# EAGLE library part TYPE-C-31-M-12 (library TYPE-C-31-M-12)
Check availability <https://pricing.snapeda.com/parts/TYPE-C-31-M-12/HRO%20Electronics%20Co.%2C%20Ltd./view-part?ref=eda>
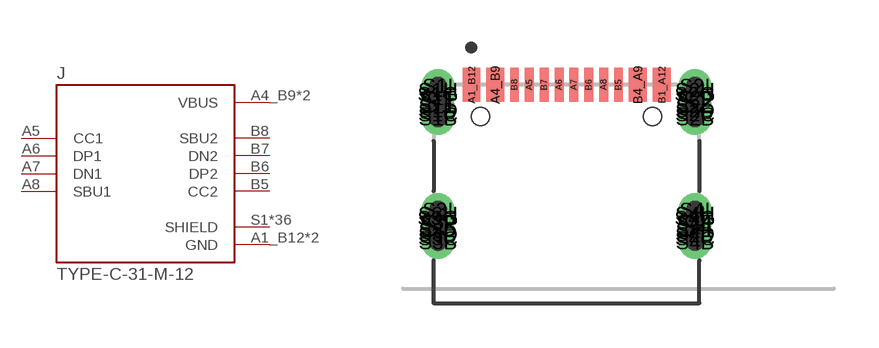
[diagram p0: symbol with the pads of HRO_TYPE-C-31-M-12; footprint HRO_TYPE-C-31-M-12]

Designator prefix J

## TYPE-C-31-M-12 (Availability: Not in stock; Check_prices: https://www.snapeda.com/parts/TYPE-C-31-M-12/HRO+Electronics+Co.%252C+Ltd./view-part/?ref=eda; Description: USB Connectors 24 Receptacle 1 8.94*7.3mm RoHS; MF: HRO Electronics Co., Ltd.; MP: TYPE-C-31-M-12; Package: Package; Price: None; SnapEDA_Link: https://www.snapeda.com/parts/TYPE-C-31-M-12/HRO+Electronics+Co.%252C+Ltd./view-part/?ref=snap)  [HRO_TYPE-C-31-M-12]
A1_B12  GND  pwr
A4_B9  VBUS  pwr
A5  CC1
A6  DP1
A7  DN1
A8  SBU1
B1_A12  GND  pwr
B4_A9  VBUS  pwr
B5  CC2
B6  DP2
B7  DN2
B8  SBU2
S1  SHIELD  pas
S1B  SHIELD  pas
S1C  SHIELD  pas
S1D  SHIELD  pas
S1E  SHIELD  pas
S1F  SHIELD  pas
S1G  SHIELD  pas
S1H  SHIELD  pas
S1I  SHIELD  pas
S2  SHIELD  pas
S2B  SHIELD  pas
S2C  SHIELD  pas
S2D  SHIELD  pas
S2E  SHIELD  pas
S2F  SHIELD  pas
S2G  SHIELD  pas
S2H  SHIELD  pas
S2I  SHIELD  pas
S3  SHIELD  pas
S3B  SHIELD  pas
S3C  SHIELD  pas
S3D  SHIELD  pas
S3E  SHIELD  pas
S3F  SHIELD  pas
S3G  SHIELD  pas
S3H  SHIELD  pas
S3I  SHIELD  pas
S4  SHIELD  pas
S4B  SHIELD  pas
S4C  SHIELD  pas
S4D  SHIELD  pas
S4E  SHIELD  pas
S4F  SHIELD  pas
S4G  SHIELD  pas
S4H  SHIELD  pas
S4I  SHIELD  pas

## Footprint HRO_TYPE-C-31-M-12 (pad centres in mm)
smd 0.6 x 1.14: A1_B12 -3.2,4.75; A4_B9 -2.4,4.75; B1_A12 3.2,4.75; B4_A9 2.4,4.75
smd 0.3 x 1.14: A5 -1.25,4.75; A6 -0.25,4.75; A7 0.25,4.75; A8 1.25,4.75; B5 1.75,4.75; B6 0.75,4.75; B7 -0.75,4.75; B8 -1.75,4.75
drill 0.6 pad 1 long: S1 -4.325,4.17; S2 4.325,4.17; S3 -4.325,0; S4 4.325,0
drill 0.6 pad 0.9: S1B -4.325,3.62; S1C -4.325,3.757; S1D -4.325,3.895; S1E -4.325,4.032; S1F -4.325,4.308; S1G -4.325,4.445; S1H -4.325,4.582; S1I -4.325,4.72; S2B 4.325,3.62; S2C 4.325,3.757; S2D 4.325,3.895; S2E 4.325,4.032; S2F 4.325,4.308; S2G 4.325,4.445; S2H 4.325,4.582; S2I 4.325,4.72; S3B -4.325,-0.55; S3C -4.325,-0.412; S3D -4.325,-0.275; S3E -4.325,-0.138; S3F -4.325,0.138; S3G -4.325,0.275; S3H -4.325,0.412; S3I -4.325,0.55; S4B 4.325,-0.55; S4C 4.325,-0.412; S4D 4.325,-0.275; S4E 4.325,-0.138; S4F 4.325,0.138; S4G 4.325,0.275; S4H 4.325,0.412; S4I 4.325,0.55
hole 0.6 at -2.89,3.68
hole 0.6 at 2.89,3.68